# EAGLE library part STD020M10X2 (library con-pinheader-standard)
male standard header 2mm
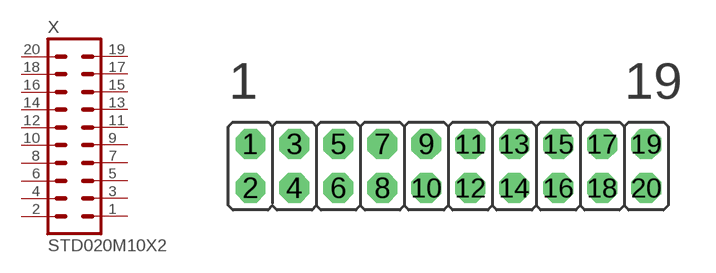
[diagram p58: symbol with the pads of STD020M10X2-2.00; footprint STD020M10X2-2.00]

Designator prefix X

## STD020M10X2-2.00MM  [STD020M10X2-2.00]
1  1  pas
2  2  pas
3  3  pas
4  4  pas
5  5  pas
6  6  pas
7  7  pas
8  8  pas
9  9  pas
10  10  pas
11  11  pas
12  12  pas
13  13  pas
14  14  pas
15  15  pas
16  16  pas
17  17  pas
18  18  pas
19  19  pas
20  20  pas

## Footprint STD020M10X2-2.00 (pad centres in mm)
male standard header 2mm
drill 0.85 octagon: 1 -9,1; 2 -9,-1; 3 -7,1; 4 -7,-1; 5 -5,1; 6 -5,-1; 7 -3,1; 8 -3,-1; 9 -1,1; 10 -1,-1; 11 1,1; 12 1,-1; 13 3,1; 14 3,-1; 15 5,1; 16 5,-1; 17 7,1; 18 7,-1; 19 9,1; 20 9,-1